# Altium footprint library CORE.PcbLib: 32 footprints (part 1 of 2)
Each footprint in its own frame and in the unit in brackets; x right, y up, seen from the top. Pads: shape width x height; smd on the part's side, far side on the other; paste and mask are expansions set on the pad; w line width, h text height; cw(c..) or ccw(c..) is an arc to the next point about the centre after c.
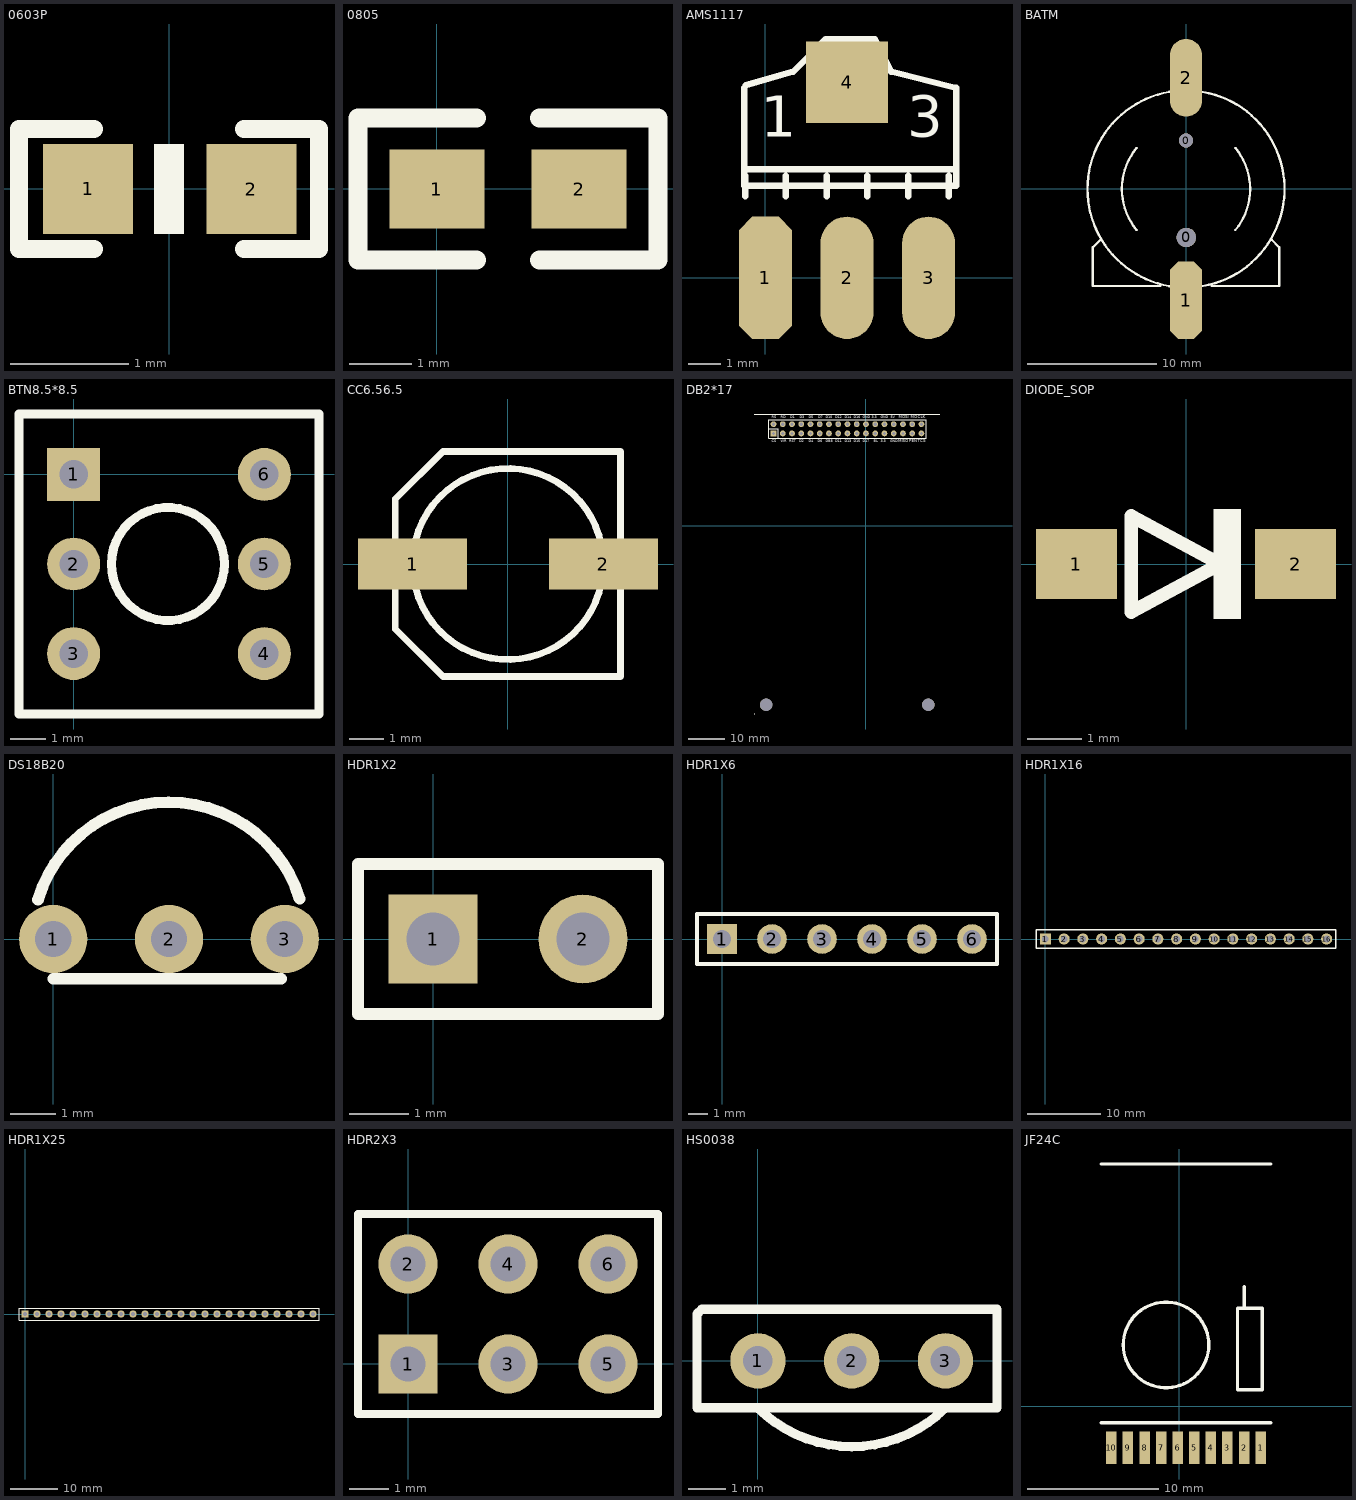
[diagram p0: the footprints below, top view; thin cyan lines are the x and y axes]

## 0603P [mil]
pads (2):
  rect 30x30 smd: 1(-27,0) 2(27.5,-0.06)
Top Overlay:
  region: 5.01,-15.07 5.01,14.93 -4.99,14.93 -4.99,-15.07
  lines w6: -25,-20.06 -50,-20.06 -50,19.94 -25,19.94 ; 25,-20.06 50,-20.06 50,19.94 25,19.94

## 0805 [mil]
pads (2):
  rect 60x50 smd: 1(0,-0.06) 2(90,-0.06)
Top Overlay:
  lines w12: 25,-45.06 -50,-45.06 -50,44.94 25,44.94 ; 65,-45.06 140,-45.06 140,44.94 65,44.94

## AMS1117 [mil]
pads (4):
  oct 65x150 smd: 1(0.03,-0.06)
  oval 65x150 smd: 2(100.03,-0.06) 3(200.03,-0.06)
  rect 100x100 smd: 4(100.03,239.94)
Top Overlay:
  lines w7.87: -25.97,232.94 -25.97,132.94 ; -24.97,99.94 -24.97,124.94 ; -24.3,236.27 34.03,252.94 74.03,292.94 134.03,292.94 154.03,252.94 234.03,232.94 234.03,112.94 ; 25.03,99.94 25.03,124.94 ; 75.03,99.94 75.03,124.94 ; 125.03,99.94 125.03,124.94 ; 175.03,99.94 175.03,124.94 ; 225.03,99.94 225.03,124.94 ; -25.97,132.94 234.03,132.94 234.03,112.94 ; -25.97,132.94 -25.97,112.94 234.03,112.94
  text "3" at 174.03,172.94 h50
  text "1" at -5.97,172.94 h50

## BATM [mm]
pads (4):
  round 1.1 hole 1.1 unplated: 0(0,3.748)
  round 1.5 hole 1.5 unplated: 0(0.025,-3.752)
  oct 2.5x6 smd: 1(0,-8.602)
  oval 2.5x6 smd: 2(0,8.598)
Top Overlay:
  lines w0.178: -6.6,-3.902 -7.2,-4.502 -7.2,-7.502 -2,-7.502 ; -3.815,-3.171 cw(c0,-0.002) -3.812,3.171 ; -0.833,-7.576 cw(c0,-0.002) -7.62,-0.002 cw(c0,-0.002) -0.833,7.573 ; 0.833,-7.576 ccw(c0,-0.002) 0.833,7.573 ; 2,-7.502 7.2,-7.502 7.2,-4.502 6.625,-3.927 ; 3.81,-3.177 ccw(c0,-0.002) 3.812,3.171

## BTN8.5*8.5 [mm]
pads (6):
  rect 1.5x1.5 hole 0.8: 1(0,0)
  round 1.5 hole 0.8: 2(0,-2.54) 3(0,-5.08) 4(5.4,-5.08) 5(5.4,-2.54) 6(5.4,0)
Top Overlay:
  circle w0.254: c2.667,-2.54 r1.6
  lines w0.254: -1.55,-6.79 6.95,-6.79 6.95,1.71 -1.55,1.71 -1.55,-6.79

## CC6.56.5 [mm]
pads (2):
  rect 3.2x1.5 smd: 1(-2.794,0) 2(2.8,0)
Top Overlay:
  circle w0.2: c0,0 r2.8
  lines w0.2: -3.302,-1.905 -1.905,-3.302 3.302,-3.302 3.302,3.302 -1.905,3.302 -3.302,1.905 -3.302,-1.905

## DB2*17 [mil]
pads (36):
  rect 62x62 hole 35: 1(-1000,1000)
  round 62 hole 35: 2(-1000,1100) 3(-900,1000) 4(-900,1100) 5(-800,1000) 6(-800,1100) 7(-700,1000) 8(-700,1100) 9(-600,1000) 10(-600,1100) 11(-500,1000) 12(-500,1100) 13(-400,1000) 14(-400,1100) 15(-300,1000) 16(-300,1100) 17(-200,1000) 18(-200,1100) 19(-100,1000) 20(-100,1100) 21(0,1000) 22(0,1100) 23(100,1000) 24(100,1100) 25(200,1000) 26(200,1100) 27(300,1000) 28(300,1100) 29(400,1000) 30(400,1100) 31(500,1000) 32(500,1100) 33(600,1000) 34(600,1100)
  round 133.86 hole 133.86: ""(-1080,-1935) ""(675,-1935)
Top Overlay:
  lines w6: -1050,1050 -950,1050 -950,950 ; -1050,950 -1050,1150 650,1150 650,950 -1050,950
  lines w10: -1210,-2030 -1205,-2035 ; -1210,1210 -625,1210 800,1210
  text "D16" at -132.87,1161.42 h28
  text "DB8" at -433.07,905.51 h28
  text "RS" at -1018.7,1161.42 h28
  text "CS" at -1018.7,905.51 h28
  text "WR" at -920.28,905.51 h28
  text "RST" at -831.69,905.51 h28
  text "D2" at -723.43,905.51 h28
  text "D3" at -718.5,1161.42 h28
  text "D4" at -620.08,905.51 h28
  text "D5" at -620.08,1161.42 h28
  text "D6" at -521.65,905.51 h28
  text "D7" at -516.73,1161.42 h28
  text "D10" at -433.07,1161.42 h28
  text "D11" at -329.72,905.51 h28
  text "D15" at -132.87,905.51 h28
  text "D14" at -231.3,1161.42 h28
  text "D17" at -34.45,905.51 h28
  text "5V" at 265.75,1161.42 h28
  text "GND" at 162.4,1161.42 h28
  text "3.3" at 63.98,1161.42 h28
  text "D12" at -334.65,1161.42 h28
  text "D1" at -816.93,1161.42 h28
  text "RD" at -920.28,1161.42 h28
  text "GND" at -34.45,1161.42 h28
  text "GND" at 260.83,905.51 h28
  text "D13" at -231.3,905.51 h28
  text "PEN" at 467.52,905.51 h30
  text "CLK" at 561.02,1161.42 h30
  text "MOSI" at 354.33,1161.42 h30
  text "MO" at 482.28,1161.42 h30
  text "TCS" at 561.02,905.51 h30
  text "MISO" at 349.41,905.51 h30
  text "BL" at 83.66,905.51 h28
  text "3.3" at 162.4,905.51 h28

## DIODE_SOP [mm]
pads (2):
  rect 1.5x1.3 smd: 1(-2.032,0) 2(2.032,0)
Top Overlay:
  rectangle: 0.508,-1.016 1.016,1.016
  lines w0.254: -1.016,-0.889 -1.016,0.889 0.635,0 -1.016,-0.889

## DS18B20 [mm]
pads (3):
  round 1.5 hole 0.8: 1(0,0) 2(2.54,0) 3(5.08,0)
Top Overlay:
  lines w0.254: -0.333,0.862 cw(c2.54,0) 5.407,0.885 ; 0,-0.875 5,-0.875

## HDR1X2 [mm]
pads (2):
  rect 1.5x1.5 hole 0.9: 1(0,0)
  round 1.5 hole 0.9: 2(2.54,0)
Top Overlay:
  lines w0.2: -1.27,-1.27 3.81,-1.27 3.81,1.27 -1.27,1.27 -1.27,-1.27

## HDR1X6 [mm]
pads (6):
  rect 1.5x1.5 hole 0.9: 1(0,0)
  round 1.5 hole 0.9: 2(2.54,0) 3(5.08,0) 4(7.62,0) 5(10.16,0) 6(12.7,0)
Top Overlay:
  lines w0.2: -1.27,-1.27 -1.27,1.27 13.97,1.27 13.97,-1.27 -1.27,-1.27

## HDR1X16 [mm]
pads (16):
  rect 1.5x1.5 hole 0.9: 1(0,0)
  round 1.5 hole 0.9: 2(2.54,0) 3(5.08,0) 4(7.62,0) 5(10.16,0) 6(12.7,0) 7(15.24,0) 8(17.78,0) 9(20.32,0) 10(22.86,0) 11(25.4,0) 12(27.94,0) 13(30.48,0) 14(33.02,0) 15(35.56,0) 16(38.1,0)
Top Overlay:
  lines w0.2: -1.27,-1.27 39.37,-1.27 39.37,1.27 0.635,1.27 -1.27,1.27 -1.27,-1.27

## HDR1X25 [mm]
pads (25):
  rect 1.5x1.5 hole 0.9: 1(0,0)
  round 1.5 hole 0.9: 2(2.54,0) 3(5.08,0) 4(7.62,0) 5(10.16,0) 6(12.7,0) 7(15.24,0) 8(17.78,0) 9(20.32,0) 10(22.86,0) 11(25.4,0) 12(27.94,0) 13(30.48,0) 14(33.02,0) 15(35.56,0) 16(38.1,0) 17(40.64,0) 18(43.18,0) 19(45.72,0) 20(48.26,0) 21(50.8,0) 22(53.34,0) 23(55.88,0) 24(58.42,0) 25(60.96,0)
Top Overlay:
  lines w0.2: -1.27,-1.27 62.23,-1.27 62.23,1.27 0.635,1.27 -1.27,1.27 -1.27,-1.27

## HDR2X3 [mm]
pads (6):
  rect 1.5x1.5 hole 0.9: 1(0,0)
  round 1.5 hole 0.9: 2(0,2.54) 3(2.54,0) 4(2.54,2.54) 5(5.08,0) 6(5.08,2.54)
Top Overlay:
  lines w0.2: 1.482,-1.27 6.35,-1.27 ; 6.35,-1.27 -1.27,-1.27 -1.27,3.81 6.35,3.81 6.35,-1.27

## HS0038 [mm]
pads (3):
  round 1.5 hole 0.8: 1(0,0) 2(2.54,0) 3(5.08,0)
Top Overlay:
  lines w0.254: 0,-1.27 ccw(c2.54,1.27) 5.08,-1.27 ; -1.651,-1.27 6.477,-1.27 6.477,1.397 -1.524,1.397 -1.651,1.27 -1.651,-1.27

## JF24C [mm]
pads (10):
  rect 0.8x2.5 smd: 1(6.223,-3.175) 2(4.953,-3.175) 3(3.683,-3.175) 4(2.413,-3.175) 5(1.143,-3.175) 6(-0.127,-3.175) 7(-1.397,-3.175) 8(-2.667,-3.175) 9(-3.937,-3.175) 10(-5.207,-3.175)
Top Overlay:
  circle w0.254: c-1.021,4.695 r3.277
  lines w0.254: -5.969,-1.27 6.985,-1.27 ; -5.969,18.542 6.985,18.542 ; 4.973,7.489 4.973,9.14 ; 4.445,1.27 6.35,1.27 6.35,7.489 4.445,7.489 4.445,1.27